# EAGLE library part TL072 (library mathrax)
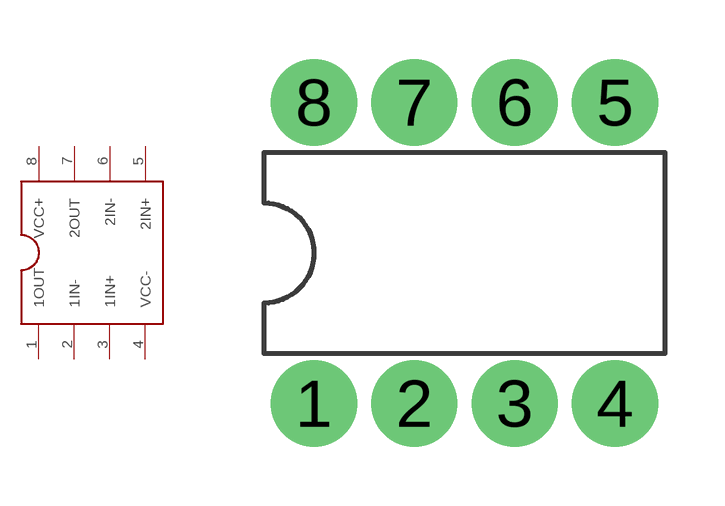
[diagram p0: symbol with the pads of TL072; footprint TL072]

Designator prefix -

## TL072  [TL072]
1  1OUT
2  1IN-
3  1IN+
4  VCC-
5  2IN+
6  2IN-
7  2OUT
8  VCC+

## Footprint TL072 (pad centres in mm)
drill 0.8 pad 2.184: 1 -3.81,-3.81; 2 -1.27,-3.81; 3 1.27,-3.81; 4 3.81,-3.81; 5 3.81,3.81; 6 1.27,3.81; 7 -1.27,3.81; 8 -3.81,3.81